# Altium footprint library CNCLib.PcbLib: 34 footprints (part 1 of 3)
Each footprint in its own frame and in the unit in brackets; x right, y up, seen from the top. Pads: shape width x height; smd on the part's side, far side on the other; paste and mask are expansions set on the pad; w line width, h text height; cw(c..) or ccw(c..) is an arc to the next point about the centre after c.
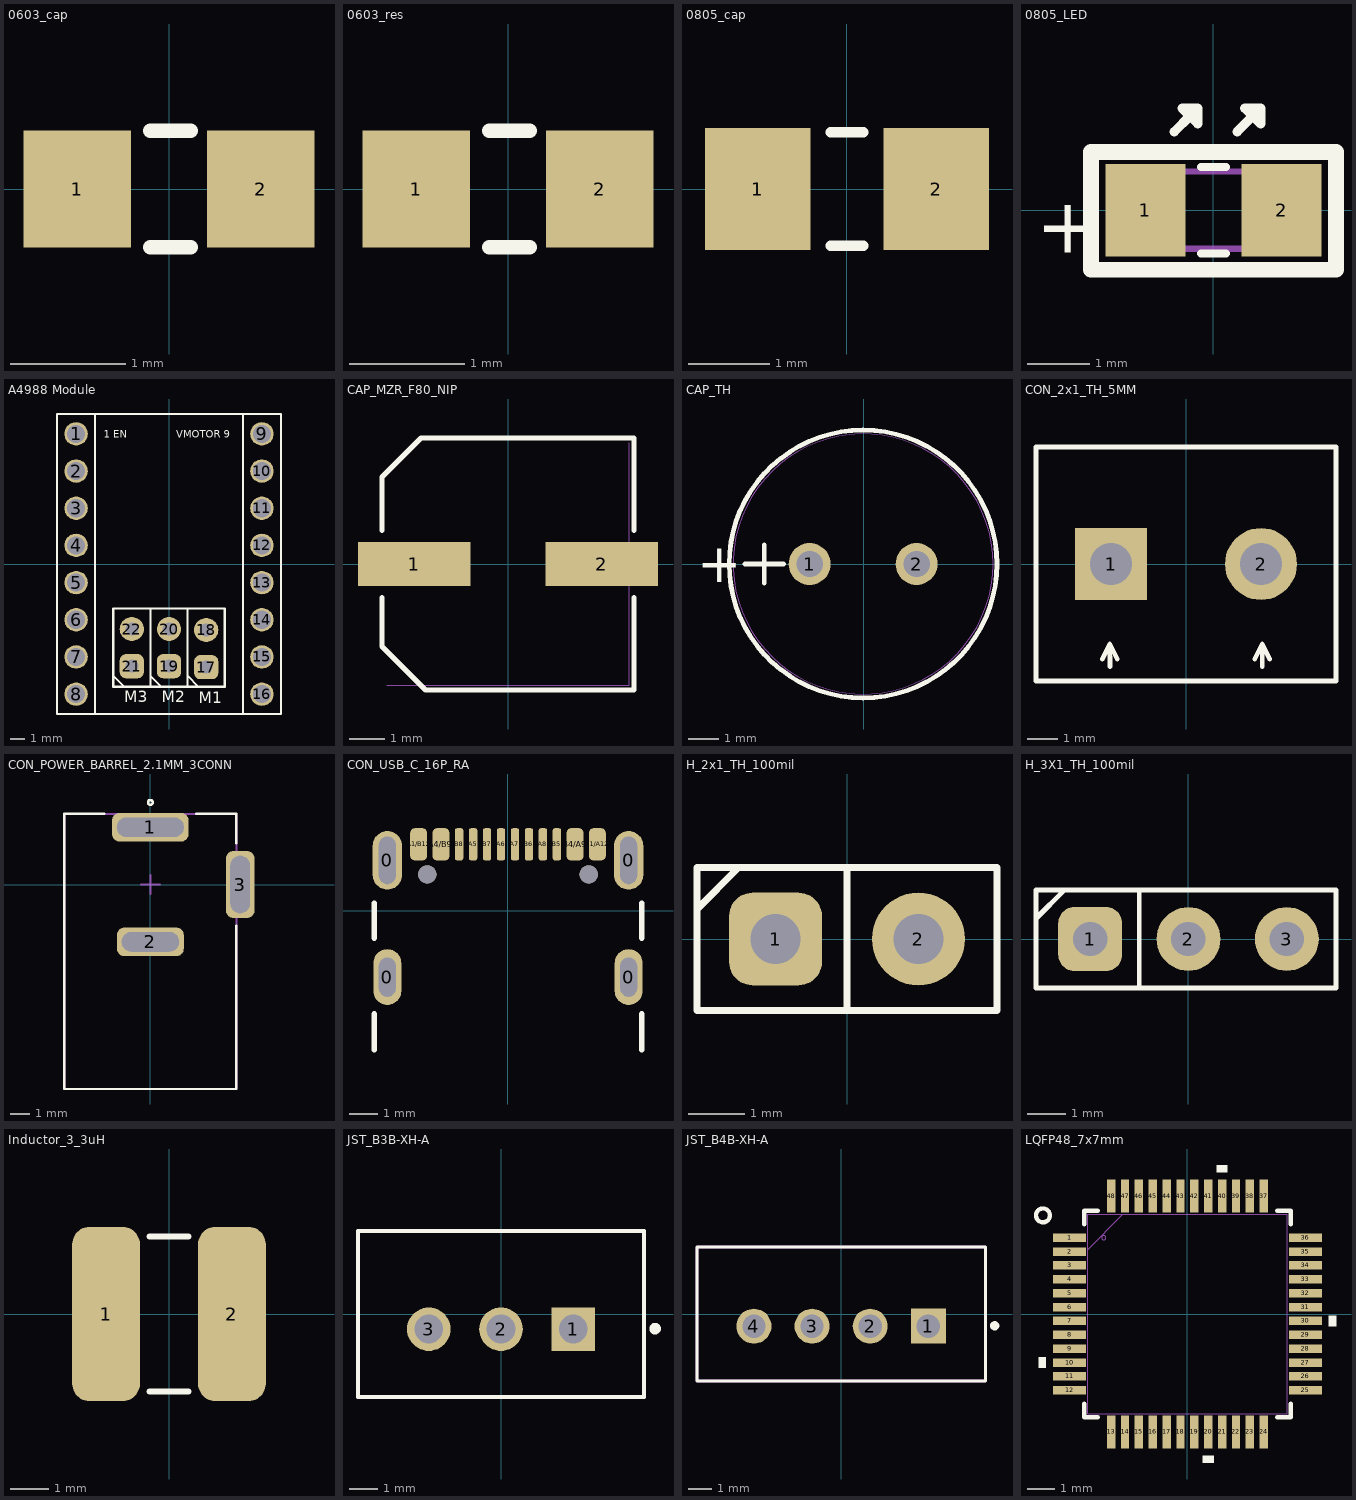
[diagram p0: the footprints below, top view; thin cyan lines are the x and y axes]

## 0603_cap [mil]
pads (2):
  rect 37x40 smd: 1(-31.5,0) 2(31.5,0)
Top Overlay:
  lines w5: -6.5,-20 7.5,-20 ; -6.5,20 7.5,20
3D body "CircuitWorks-CAPACITOR 0603.STEP": height 34.36, standoff 0.5, extent -31.5,-16.93 31.5,16.93

## 0603_res [mil] "1608 Metric / 20190225 / C-A.Serna.A"
pads (2):
  rect 37x40 smd: 1(-31.5,0) 2(31.5,0)
Top Overlay:
  lines w5: -6.5,-20 7.5,-20 ; -6.5,20 7.5,20
3D body "C0603.step": height 11.89, standoff 0, extent -31.5,-15.75 31.5,15.75

## 0805_cap [mm]
pads (2):
  rect 1.3x1.5 smd: 1(-1.1,0) 2(1.1,0)
Top Overlay:
  lines w0.127: -0.2,-0.7 0.2,-0.7 ; -0.2,0.7 0.2,0.7
3D body: height 1, standoff 0, extent -1.125,-0.7 1.075,0.7

## 0805_LED [mm]
pads (2):
  rect 1.3x1.5 smd: 1(-1.1,0) 2(1.1,0)
Top Overlay:
  lines w0.127: -0.2,-0.7 0.2,-0.7 ; -0.2,0.7 0.2,0.7
  lines w0.152: -0.635,1.27 -0.381,1.524 -0.508,1.651 ; 0.381,1.27 0.635,1.524 0.508,1.651 ; -0.508,1.651 -0.254,1.651 -0.254,1.397 -0.508,1.651 ; 0.508,1.651 0.762,1.651 0.762,1.397 0.508,1.651
  lines w0.254: -1.981,-0.965 1.981,-0.965 1.981,0.94 -1.981,0.94 -1.981,-0.965
  text "+" at -2.87,-0.686 h0.89
Mechanical 1:
  lines w0.1: -0.7,-0.625 -0.7,0.625 ; 0.7,-0.625 0.7,0.625 ; -1,-0.625 1,-0.625 1,0.625 -1,0.625 -1,-0.625
3D body: height 1.1, standoff 0.5, extent -0.7,-0.625 0.7,0.625
3D body: height 0.5, standoff 0, extent -1,-0.625 1,0.625

## A4988 Module [mm]
pads (22):
  round 1.6 hole 1.25 mask+0.076: 1(-6.35,8.89) 2(-6.35,6.35) 3(-6.35,3.81) 4(-6.35,1.27) 5(-6.35,-1.27) 6(-6.35,-3.81) 7(-6.35,-6.35) 8(-6.35,-8.89) 9(6.35,8.89) 10(6.35,6.35) 11(6.35,3.81) 12(6.35,1.27) 13(6.35,-1.27) 14(6.35,-3.81) 15(6.35,-6.35) 16(6.35,-8.89)
  rrect50% 1.651x1.651 hole 0.889: 17(2.54,-7.048) 19(0,-6.985) 21(-2.54,-6.985)
  round 1.651 hole 0.889: 18(2.54,-4.508) 20(0,-4.445) 22(-2.54,-4.445)
Top Overlay:
  lines w0.127: -3.81,-7.642 -3.07,-8.382 ; -1.27,-8.382 -1.27,-3.048 ; -1.27,-7.642 -0.53,-8.382 ; 1.27,-8.382 1.27,-3.048 ; 1.27,-7.642 2.01,-8.382
  lines w0.152: -5.05,-10.25 -7.65,-10.25 -7.65,10.25 -5.05,10.25 ; -5.05,-10.25 -5.05,10.25 ; -5.05,-10.25 5.05,-10.25 ; -5.05,10.25 5.05,10.25 ; 5.05,-10.25 7.65,-10.25 7.65,10.25 5.05,10.25 ; 5.05,-10.25 5.05,10.25 ; -3.81,-8.382 3.81,-8.382 3.81,-3.048 -3.81,-3.048 -3.81,-8.382
  text "1 EN" at -4.445,8.636 h0.51
  text "VMOTOR 9" at 0.508,8.636 h0.51
  text "M2" at -0.508,-9.461 h0.76
  text "M1" at 2.032,-9.525 h0.76
  text "M3" at -3.048,-9.461 h0.76
3D body "a4988-stepper-motor-driver-carrier.step": height 13.37, standoff 10, extent -7.747,-10.16 7.493,10.16
3D body "PH1-02-UA.STEP": height 8.6, standoff -2.95, extent 1.289,-8.339 3.789,-3.252
3D body "PH1-02-UA.STEP": height 8.6, standoff -2.95, extent -1.251,-8.275 1.249,-3.188
3D body "PH1-02-UA.STEP": height 8.6, standoff -2.95, extent -3.791,-8.275 -1.291,-3.188

## CAP_MZR_F80_NIP [mil]
pads (2):
  rect 124x48 smd: 1(-103.5,0) 2(103.5,0)
Top Overlay:
  lines w6: -139,-37.1 -139,-91 -91,-139 139,-139 139,-37.1 ; -139,37.1 -139,96 -96,139 139,139 139,37.1
Top 3D Body:
  lines w1: -134,-134 134,-134 134,134
3D body "CAP_MZR_F80_NIP.step": height 317.09, standoff 0, extent -145.51,-134.02 145.51,134.02

## CAP_TH [mil]
pads (2):
  round 54 hole 34 paste-99999 mask+0: 1(-70,0) 2(67.8,0)
Top Overlay:
  circle w6: c-1.1,0 r172.5
  lines w6: -153.6,0 -103.6,0 ; -128.6,-25 -128.6,25
  text "+" at -215,-23.33 h50
Top 3D Body:
  circle w0: c-1.1,0 r167.5
  lines w1: -153.6,0 -103.6,0 ; -128.6,-25 -128.6,25
3D body "CAP_YX_8X11P5_RUB.step": height 512.6, standoff -172.01, extent -168.58,-167.38 167.43,167.38

## CON_2x1_TH_5MM [mm]
pads (2):
  rect 2.4x2.4 hole 1.4: 1(-2.5,0)
  round 2.4 hole 1.4: 2(2.5,0)
Top Overlay:
  lines w0.152: -2.794,-3.175 -2.54,-2.667 ; -2.534,-3.429 -2.54,-2.667 ; -2.286,-3.175 -2.54,-2.667 ; 2.286,-3.175 2.54,-2.667 ; 2.537,-3.429 2.54,-2.667 ; 2.794,-3.175 2.54,-2.667 ; -5,-3.9 5,-3.9 5,3.9 -5,3.9 -5,-3.9
3D body "TherminalBlock_2Pin.step": height 11.5, standoff -3.6, extent -5,-3.75 5,3.75

## CON_POWER_BARREL_2.1MM_3CONN [mm]
pads (3):
  rrect50% 4x1.5 hole 1.016 slot 3.5 at 0 deg: 1(0,3)
  rrect50% 3.5x1.5 hole 1.016 slot 3 at 0 deg: 2(0,-3)
  rrect50% 1.5x3.5 hole 1.016 slot 3 at 90 deg: 3(4.7,0)
Top Overlay:
  circle w0.127: c0,4.3 r0.125
  lines w0.127: -2.4,3.7 -4.5,3.7 -4.5,-10.7 4.5,-10.7 4.5,-2.15 ; 2.4,3.7 4.5,3.7 4.5,2.15
Mechanical 1:
  lines w0.1: -4.5,-10.7 4.5,-10.7 4.5,3.7 -4.5,3.7 -4.5,-10.7
Mechanical 15:
  lines w0.1: -0.5,0 0.5,0 ; 0,-0.5 0,0.5
3D body "pj-002a.stp": height 11, standoff -3.5, extent -4.5,-10.7 4.9,3.7

## CON_USB_C_16P_RA [mm]
pads (18):
  oval 1x2 hole 0.6 slot 1.4 at 90 deg: 0(-4.32,-2.377) 0(4.32,-2.377)
  oval 1.05x2.1 hole 0.6 slot 1.7 at 90 deg: 0(-4.32,1.803) 0(4.32,1.803)
  rrect50% 0.6x1.15 smd: A1/B12(-3.2,2.378) A4/B9(-2.4,2.378) B1/A12(3.2,2.378) B4/A9(2.4,2.378)
  rrect50% 0.3x1.15 smd: A5(-1.25,2.378) A6(-0.25,2.378) A7(0.25,2.378) A8(1.25,2.378) B5(1.75,2.378) B6(0.75,2.378) B7(-0.75,2.378) B8(-1.75,2.378)
  round 0.65 hole 0.65 unplated: ""(-2.89,1.303) ""(2.89,1.303)
Top Overlay:
  lines w0.2: -4.79,-4.977 -4.79,-3.697 ; -4.79,-0.977 -4.79,0.273 ; 4.79,-4.977 4.79,-3.697 ; 4.79,-0.977 4.79,0.273
3D body "step_temp.STEP": height 3.31, standoff -0.85, extent -4.79,-4.977 4.79,2.733

## H_2x1_TH_100mil [mil]
pads (2):
  rrect50% 65x65 hole 35: 1(-50,0)
  round 65 hole 35: 2(50,0)
Top Overlay:
  lines w5: -105,20.87 -75.87,50 ; 0,-50 0,50 ; -105,-50 -105,50 105,50 105,-50 -105,-50
3D body "PH1-02-UA.STEP": height 338.58, standoff -116.14, extent -100.8,-49.16 99.48,49.26

## H_3X1_TH_100mil [mil]
pads (3):
  rrect50% 65x65 hole 35: 1(-100,0)
  round 65 hole 35: 2(0,0) 3(100,0)
Top Overlay:
  lines w5: -155,20.87 -125.87,50 ; -50,-50 -50,50 ; -155,-50 -155,50 150,50 150,-50 -155,-50
3D body "5-146278-3--3DModel-STEP-1.STEP": height 320.5, standoff -119.5, extent -142,-46 142,46

## Inductor_3_3uH [mm]
pads (2):
  rrect50% 1.75x4.5 smd: 1(-1.625,0) 2(1.625,0)
Top Overlay:
  lines w0.152: -0.508,-2 0.508,-2 ; -0.508,2 0.508,2
3D body "Inductor_bourns.STEP": height 3.2, standoff 0, extent -2.176,-2 2.176,2

## JST_B3B-XH-A [mm]
height 7
pads (3):
  rect 1.508x1.508 / inner round 1.508 / far side rect 1.508x1.508 hole 1: 1(2.5,-0.525)
  round 1.508 hole 1: 2(0,-0.525) 3(-2.5,-0.525)
Top Overlay:
  circle w0.2: c5.334,-0.508 r0.1
  lines w0.127: -4.95,-2.875 4.95,-2.875 4.95,2.875 -4.95,2.875 -4.95,-2.875
Top 3D Body:
  lines w0.127: -4.95,-2.875 4.95,-2.875 4.95,2.875 -4.95,2.875 -4.95,-2.875
3D body "step_temp.STEP": height 7, standoff -3.4, extent -4.95,-2.875 4.95,2.875

## JST_B4B-XH-A [mm]
height 7
pads (4):
  rect 1.508x1.508 / inner round 1.508 / far side rect 1.508x1.508 hole 1: 1(3.75,-0.525)
  round 1.508 hole 1: 2(1.25,-0.525) 3(-1.25,-0.525) 4(-3.75,-0.525)
Top Overlay:
  circle w0.2: c6.604,-0.508 r0.1
  lines w0.127: -6.2,-2.875 6.2,-2.875 6.2,2.875 -6.2,2.875 -6.2,-2.875
Top 3D Body:
  lines w0.127: -6.2,-2.875 6.2,-2.875 6.2,2.875 -6.2,2.875 -6.2,-2.875
3D body "step_temp.STEP": height 7, standoff -3.4, extent -6.2,-2.875 6.2,2.875

## LQFP48_7x7mm [mm]
pads (48):
  rect 1.194x0.305 smd paste+0 mask+0.046: 1(-4.25,2.75) 2(-4.25,2.25) 3(-4.25,1.75) 4(-4.25,1.25) 5(-4.25,0.75) 6(-4.25,0.25) 7(-4.25,-0.25) 8(-4.25,-0.75) 9(-4.25,-1.25) 10(-4.25,-1.75) 11(-4.25,-2.25) 12(-4.25,-2.75) 25(4.25,-2.75) 26(4.25,-2.25) 27(4.25,-1.75) 28(4.25,-1.25) 29(4.25,-0.75) 30(4.25,-0.25) 31(4.25,0.25) 32(4.25,0.75) 33(4.25,1.25) 34(4.25,1.75) 35(4.25,2.25) 36(4.25,2.75)
  rect 0.305x1.194 smd paste+0 mask+0.046: 13(-2.75,-4.25) 14(-2.25,-4.25) 15(-1.75,-4.25) 16(-1.25,-4.25) 17(-0.75,-4.25) 18(-0.25,-4.25) 19(0.25,-4.25) 20(0.75,-4.25) 21(1.25,-4.25) 22(1.75,-4.25) 23(2.25,-4.25) 24(2.75,-4.25) 37(2.75,4.25) 38(2.25,4.25) 39(1.75,4.25) 40(1.25,4.25) 41(0.75,4.25) 42(0.25,4.25) 43(-0.25,4.25) 44(-0.75,4.25) 45(-1.25,4.25) 46(-1.75,4.25) 47(-2.25,4.25) 48(-2.75,4.25)
Top Overlay:
  circle w0.152: c-5.207,3.556 r0.251
  region: 0.941,-5.101 0.56,-5.101 0.56,-5.355 0.941,-5.355
  region: 1.441,5.101 1.06,5.101 1.06,5.355 1.441,5.355
  region: 5.101,-0.059 5.355,-0.059 5.355,-0.44 5.101,-0.44
  region: -5.101,-1.559 -5.355,-1.559 -5.355,-1.94 -5.101,-1.94
  lines w0.152: -3.721,-3.235 -3.721,-3.721 -3.235,-3.721 ; -3.721,3.235 -3.721,3.721 -3.235,3.721 ; 3.235,-3.721 3.721,-3.721 3.721,-3.235 ; 3.235,3.721 3.721,3.721 3.721,3.235
Top 3D Body:
  circle w0: c-3.018,2.75 r0.076
  lines w0.025: -3.594,2.324 -2.324,3.594 ; -3.594,-3.594 -3.594,3.594 3.594,3.594 3.594,-3.594 -3.594,-3.594
3D body "LQFP48-7x7mm.step": height 1.6, standoff 0, extent -4.497,-4.497 4.497,4.497